# Altium schematic symbol library OLED.SchLib: 1 symbol
Pins are listed as number, name and electrical type; pins without a type are passive.

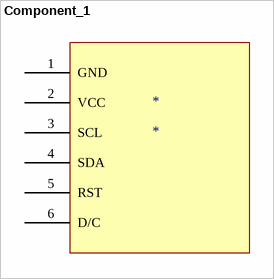
[diagram p0: symbol Component_1]

## Component_1
designator *
pins: 1 GND, 2 VCC, 3 SCL, 4 SDA, 5 RST, 6 D/C